# Altium footprint library quadrotor.PcbLib: 17 footprints (part 2 of 2)
Each footprint in its own frame and in the unit in brackets; x right, y up, seen from the top. Pads: shape width x height; smd on the part's side, far side on the other; paste and mask are expansions set on the pad; w line width, h text height; cw(c..) or ccw(c..) is an arc to the next point about the centre after c.
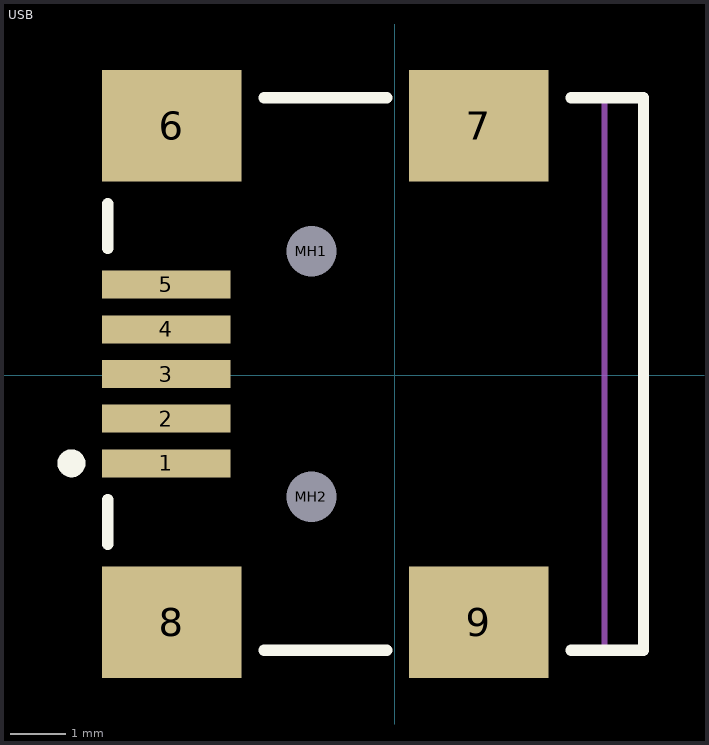
[diagram p1: the footprint, top view; thin cyan lines are the x and y axes]

## USB [mm]
pads (11):
  rect 2.3x0.5 smd: 1(-4.091,-1.575) 2(-4.091,-0.775) 3(-4.091,0.025) 4(-4.091,0.825) 5(-4.091,1.625)
  rect 2.5x2 smd: 6(-3.991,4.475) 7(1.509,4.475) 8(-3.991,-4.425) 9(1.509,-4.425)
  round 0.6 hole 0.9 unplated: MH1(-1.491,2.225) MH2(-1.491,-2.175)
Top Overlay:
  circle w0.25: c-5.791,-1.575 r0.125
  lines w0.2: -5.141,-3.025 -5.141,-2.225 ; -5.141,2.275 -5.141,3.075 ; -2.341,-4.925 -0.141,-4.925 ; -2.341,4.975 -0.141,4.975 ; 3.159,-4.925 4.459,-4.925 4.459,4.975 3.159,4.975
Mechanical 1:
  lines w0.1: 3.759,-4.925 3.759,4.975
  text "PCB Edge" at 4.191,-4.011 h0.25